# Altium schematic symbol library JQC-3F-1C-24VDC.SchLib: 1 symbol
Pins are listed as number, name and electrical type; pins without a type are passive.

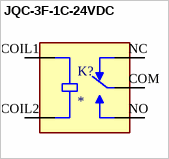
[diagram p0: symbol JQC-3F-1C-24VDC]

## JQC-3F-1C-24VDC
designator K?
Miniature PCB Relay 24VDC, 10A 250VAC, 15A 125VAC, 10A 250VAC; MP: JQC-3F-1C-24VDC; MF: YUEQING HENGWEI ELECTRONICS CO.,LTD.; Price: None; Availability: Unavailable; SnapEDA_Link: https://www.snapeda.com/parts/JQC-3F-1C-24VDC/YUEQING%20HENGWEI%20ELECTRONICS%20CO.,LTD./view-part/4374405/?ref=snap; Value: *; Package: Package; Check_prices: https://www.snapeda.com/parts/JQC-3F-1C-24VDC/YUEQING%20HENGWEI%20ELECTRONICS%20CO.,LTD./view-part/4374405/?ref=eda
footprint RELAY_JQC-3F-1C-24VDC
footprint RELAY_JQC-3F-1C-24VDC
pins: COIL1, COIL2, COM, NC, NO